# Altium schematic symbol library CJ_Component.SchLib: 4 symbols
Pins are listed as number, name and electrical type; pins without a type are passive.

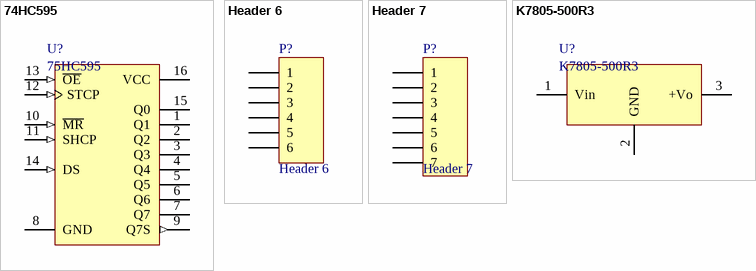
[diagram p0: symbols 74HC595 to K7805-500R3]

## 74HC595
designator U?, comment 75HC595
IC 8BIT SHIFT REGISTER 16-DHVQFN
footprint SOT763-1
pins: 1 Q1 (hiz), 2 Q2 (hiz), 3 Q3 (hiz), 4 Q4 (hiz), 5 Q5 (hiz), 6 Q6 (hiz), 7 Q7 (hiz), 8 GND (power), 9 Q7S (out), 10 ~{MR} (in), 11 SHCP (in), 12 STCP (in), 13 ~{OE} (in), 14 DS (in), 15 Q0 (hiz), 16 VCC (power)

## Header 6
designator P?
接插件; LatestRevisionDate: 17-Jul-2002; LatestRevisionNote: Re-released for DXP Platform.; Publisher: Altium Limited
footprint HDR6X1_B2 (Connector; Header; 3 Position)
footprint HDR6X1_B1 (Connector; Header; 4 Position)
footprint HDR6X1_A
pins: 1, 2, 3, 4, 5, 6

## Header 7
designator P?
接插件; LatestRevisionDate: 17-Jul-2002; LatestRevisionNote: Re-released for DXP Platform.; Publisher: Altium Limited
footprint HDR7X1_A (Connector; Header; 4 Position)
pins: 1, 2, 3, 4, 5, 6, 7

## K7805-500R3
designator U?
MORNSUN  DC/DC Converter
footprint K7805-500R3
pins: 1 Vin (power), 2 GND (power), 3 +Vo (power)